# Altium schematic symbol library SCH - CRYSTALS - 4PIN 1-3.Schlib: 1 symbol
Pins are listed as number, name and electrical type; pins without a type are passive.

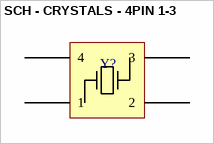
[diagram p0: symbol SCH - CRYSTALS - 4PIN 1-3]

## SCH - CRYSTALS - 4PIN 1-3
designator Y?
footprint crystal_3.2x2.5_4pin (Crystal, 4-Leads, Body 2.50x3.20mm, Pitch 2.20mm, IPC Medium Density)
pins: 1, 2, 3, 4